# Altium footprint library PX4FMUv2.4.6.PcbLib: 48 footprints (part 1 of 3)
Each footprint in its own frame and in the unit in brackets; x right, y up, seen from the top. Pads: shape width x height; smd on the part's side, far side on the other; paste and mask are expansions set on the pad; w line width, h text height; cw(c..) or ccw(c..) is an arc to the next point about the centre after c.
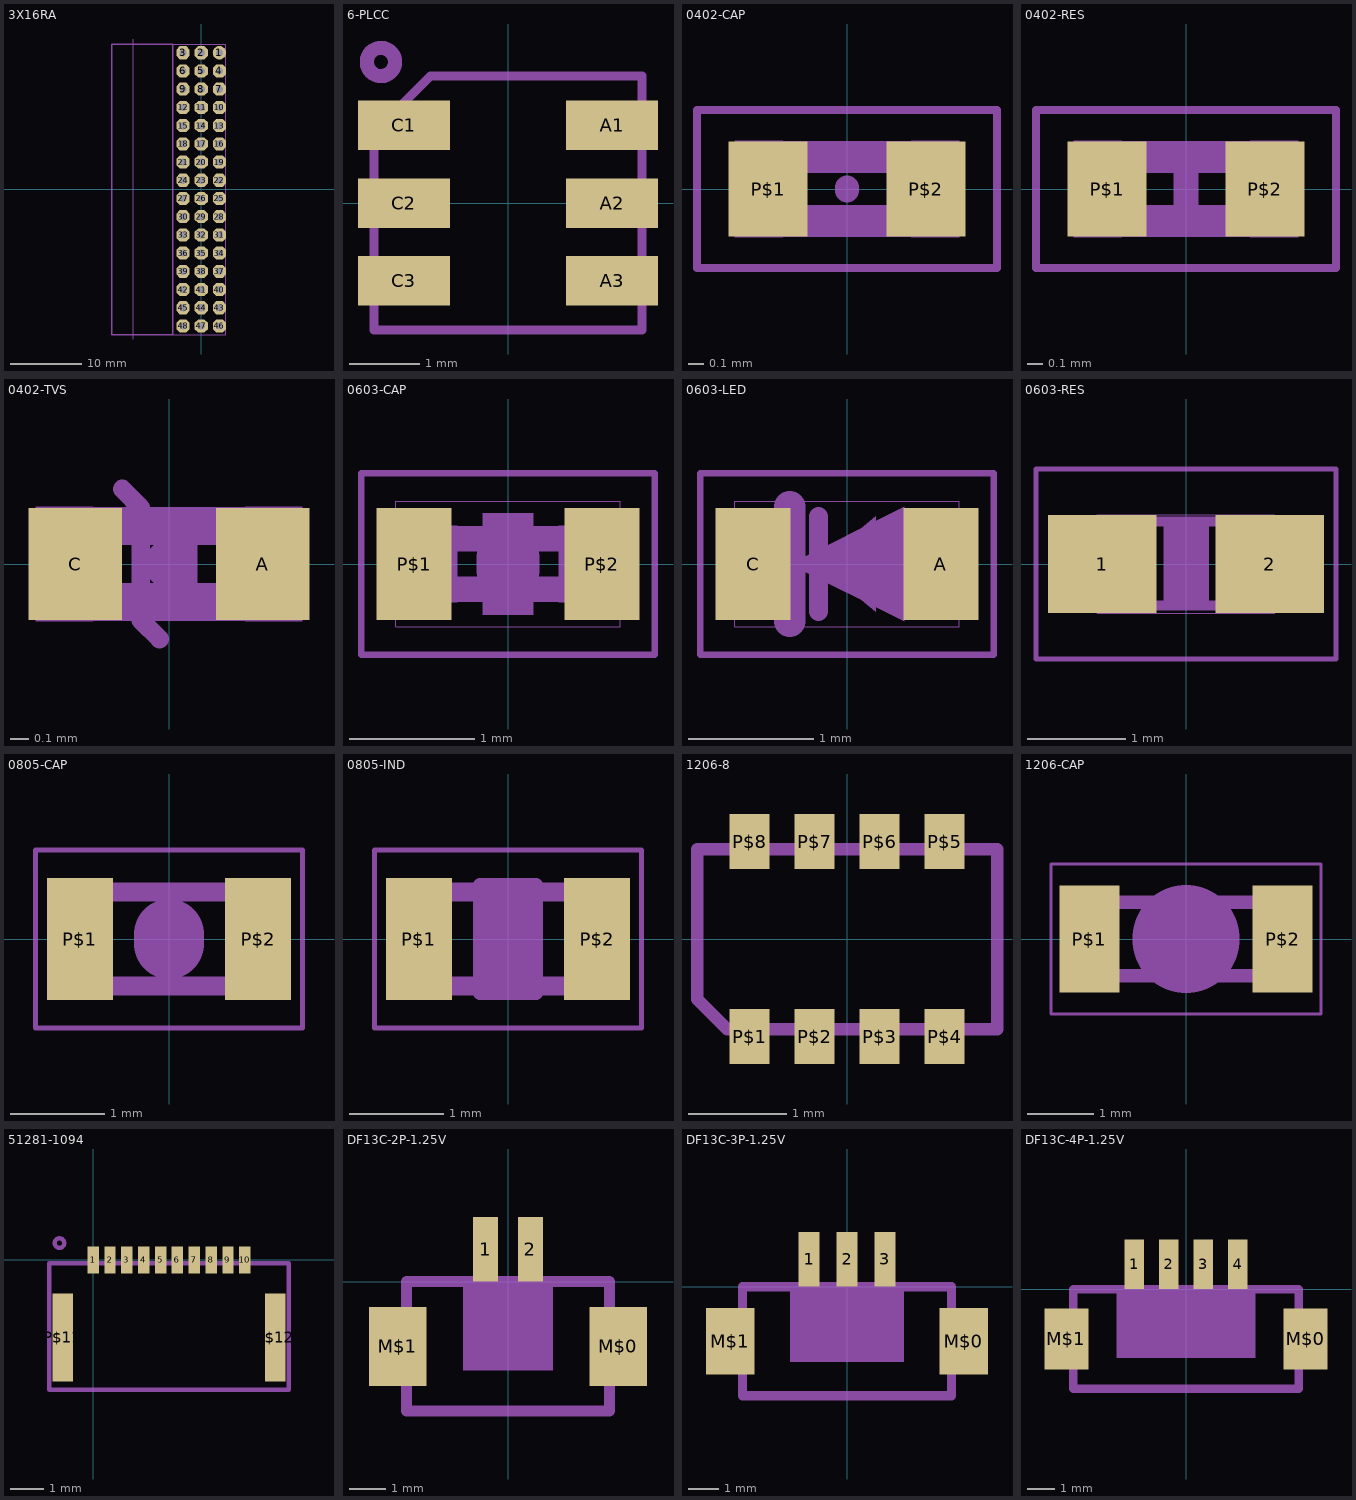
[diagram p0: the footprints below, top view; thin cyan lines are the x and y axes]

## 3X16RA [mil] "3X16RA"
pads (48):
  round 74 / inner round 60 / far side round 74 hole 40: 1(100,750)
  oct 71.65x71.65 / inner oct 60x60 / far side oct 71.65x71.65 hole 40: 2(0,750) 3(-100,750) 4(100,650) 5(0,650) 6(-100,650) 7(100,550) 8(0,550) 9(-100,550) 10(100,450) 11(0,450) 12(-100,450) 13(100,350) 14(0,350) 15(-100,350) 16(100,250) 17(0,250) 18(-100,250) 19(100,150) 20(0,150) 21(-100,150) 22(100,50) 23(0,50) 24(-100,50) 25(100,-50) 26(0,-50) 27(-100,-50) 28(100,-150) 29(0,-150) 30(-100,-150) 31(100,-250) 32(0,-250) 33(-100,-250) 34(100,-350) 35(0,-350) 36(-100,-350) 37(100,-450) 38(0,-450) 39(-100,-450) 40(100,-550) 41(0,-550) 42(-100,-550) 43(100,-650) 44(0,-650) 45(-100,-650) 46(100,-750) 47(0,-750) 48(-100,-750)
Mechanical 8:
  drawing of 56 lines, arcs and shapes, not listed
Mechanical 16:
  lines w0.38: -490.94,-797.64 135.04,-797.64 135.04,-2.36 135.04,797.64 -490.94,797.64 -490.94,-2.36 -490.94,-797.64

## 6-PLCC [mm] "6-PLCC"
pads (6):
  rect 1.3x0.7 smd: A1(1.475,1.1) A2(1.475,0) A3(1.475,-1.1) C1(-1.475,1.1) C2(-1.475,0) C3(-1.475,-1.1)
Mechanical 9:
  lines w0.127: -1.9,-1.8 -1.9,1 -1.1,1.8 ; 1.9,-1.8 1.9,1.8
Mechanical 16:
  circle w0.2: c-1.8,2 r0.2
  lines w0.127: -1.9,-1.8 1.9,-1.8 ; -1.1,1.8 1.9,1.8

## 0402-CAP [mm] "0402-CAP"
pads (2):
  rect 0.5x0.6 smd: P$1(-0.5,0) P$2(0.5,0)
Mechanical 8:
  region: 0.406,-0.305 0.406,0.305 0.711,0.305 0.711,-0.305
  region: -0.711,-0.305 -0.711,0.305 -0.406,0.305 -0.406,-0.305
  lines w0.203: -0.508,-0.203 0.508,-0.203 ; -0.508,0.203 0.508,0.203
Mechanical 16:
  lines w0.001: -0.6,-0.3 -0.6,0.3 0.6,0.3 0.6,-0.3 -0.6,-0.3
  lines w0.051: -0.95,-0.5 -0.95,0.5 0.95,0.5 0.95,-0.5 -0.95,-0.5
  lines w0.152: 0,-0.01 0,0.01

## 0402-RES [mm] "0402-RES"
pads (2):
  rect 0.5x0.6 smd: P$1(-0.5,0) P$2(0.5,0)
Mechanical 8:
  region: 0.406,-0.305 0.406,0.305 0.711,0.305 0.711,-0.305
  region: -0.711,-0.305 -0.711,0.305 -0.406,0.305 -0.406,-0.305
  lines w0.203: -0.508,-0.203 0.508,-0.203 ; -0.508,0.203 0.508,0.203
Mechanical 16:
  region: -0.076,-0.3 -0.076,0.3 0.076,0.3 0.076,-0.3
  lines w0.001: -0.6,-0.3 -0.6,0.3 0.6,0.3 0.6,-0.3 -0.6,-0.3
  lines w0.051: -0.95,-0.5 -0.95,0.5 0.95,0.5 0.95,-0.5 -0.95,-0.5

## 0402-TVS [mm] "0402-TVS"
pads (2):
  rect 0.5x0.6 smd: A(0.5,0) C(-0.5,0)
Mechanical 8:
  region: -0.711,-0.305 -0.711,0.305 -0.406,0.305 -0.406,-0.305
  region: 0.406,-0.305 0.406,0.305 0.711,0.305 0.711,-0.305
  lines w0.203: -0.508,-0.203 0.508,-0.203 ; -0.508,0.203 0.508,0.203
Mechanical 16:
  lines w0.1: -0.25,0.4 -0.15,0.3 -0.15,-0.3 -0.05,-0.4
  lines w0.152: -0.076,0 0.076,0.152 0.076,0 ; -0.076,0 0.076,-0.152 0.076,0 ; -0.076,0 0.076,0

## 0603-CAP [mm] "0603-CAP"
pads (2):
  rect 0.6x0.9 smd: P$1(-0.75,0) P$2(0.75,0)
Mechanical 8:
  region: -0.711,-0.305 -0.711,0.305 -0.406,0.305 -0.406,-0.305
  region: 0.406,-0.305 0.406,0.305 0.711,0.305 0.711,-0.305
  region: 0.406,-0.305 0.406,0.305 0.711,0.305 0.711,-0.305
  lines w0.203: -0.508,-0.203 0.508,-0.203 ; -0.508,0.203 0.508,0.203
Mechanical 16:
  region: -0.2,-0.3 -0.2,0.3 0.2,0.3 0.2,-0.3
  region: -0.203,-0.406 -0.203,0.406 0.203,0.406 0.203,-0.406
  lines w0.001: -0.9,-0.5 0.9,-0.5 0.9,0.5 -0.9,0.5 -0.9,-0.5
  lines w0.051: -1.175,-0.725 1.175,-0.725 1.175,0.725 -1.175,0.725 -1.175,-0.725
  lines w0.5: 0,-0.051 0,0.051

## 0603-LED [mm] "0603-LED"
pads (2):
  rect 0.6x0.9 smd: A(0.75,0) C(-0.75,0)
Mechanical 9:
  region: -0.457,0 0.457,0.457 0.457,-0.457
  lines w0.254: -0.457,-0.457 -0.457,0.457
Mechanical 16:
  region: -0.229,0 0.229,0.381 0.229,-0.381
  lines w0.001: -0.9,-0.5 -0.9,0.5 0.9,0.5 0.9,-0.5 -0.9,-0.5
  lines w0.051: -1.175,-0.725 -1.175,0.725 1.175,0.725 1.175,-0.725 -1.175,-0.725
  lines w0.152: -0.229,-0.381 -0.229,0.381

## 0603-RES [mm] "0603-RES"
pads (2):
  rect 1.1x1 smd: 1(-0.85,0) 2(0.85,0)
Mechanical 8:
  region: -0.838,-0.47 -0.838,0.48 -0.338,0.48 -0.338,-0.47
  region: 0.33,-0.47 0.33,0.48 0.83,0.48 0.83,-0.47
  lines w0.102: -0.356,-0.419 0.356,-0.419 ; -0.356,0.432 0.356,0.432
Mechanical 16:
  region: -0.2,-0.3 -0.2,0.3 0.2,0.3 0.2,-0.3
  region: -0.229,-0.381 -0.229,0.381 0.229,0.381 0.229,-0.381
  lines w0.001: -0.9,-0.5 0.9,-0.5 0.9,0.5 -0.9,0.5 -0.9,-0.5
  lines w0.051: -1.524,-0.965 1.524,-0.965 1.524,0.965 -1.524,0.965 -1.524,-0.965

## 0805-CAP [mm] "0805-CAP"
pads (2):
  rect 0.7x1.3 smd: P$1(-0.95,0) P$2(0.95,0)
Mechanical 8:
  region: -1,-0.601 -1,0.601 -0.6,0.601 -0.6,-0.601
  region: 0.6,-0.601 0.6,0.601 1,0.601 1,-0.601
  lines w0.203: -0.6,-0.5 0.6,-0.5 ; -0.6,0.5 0.6,0.5
Mechanical 16:
  lines w0.051: -1.425,-0.95 1.425,-0.95 1.425,0.95 -1.425,0.95 -1.425,-0.95
  lines w0.75: 0,-0.051 0,0.051

## 0805-IND [mm] "0805-IND"
pads (2):
  rect 0.7x1.3 smd: P$1(-0.95,0) P$2(0.95,0)
Mechanical 8:
  region: 0.6,-0.601 0.6,0.601 1,0.601 1,-0.601
  region: -1,-0.601 -1,0.601 -0.6,0.601 -0.6,-0.601
  lines w0.203: -0.6,-0.5 0.6,-0.5 ; -0.6,0.5 0.6,0.5
Mechanical 16:
  region: -0.299,-0.574 -0.299,0.574 0.299,0.574 0.299,-0.574
  lines w0.051: -1.425,-0.95 -1.425,0.95 1.425,0.95 1.425,-0.95 -1.425,-0.95
  lines w0.152: -0.299,-0.574 0.299,-0.574 0.299,0.574 -0.299,0.574 -0.299,-0.574

## 1206-8 [mil] "1206-8"
pads (8):
  rect 16x22 smd: P$1(-39,-39) P$2(-13,-39) P$3(13,-39) P$4(39,-39) P$5(39,39) P$6(13,39) P$7(-13,39) P$8(-39,39)
Mechanical 16:
  lines w5: -60,-24 -48,-36 60,-36 60,36 -60,36 -60,-24

## 1206-CAP [mm] "1206-CAP"
pads (2):
  rect 0.9x1.6 smd: P$1(-1.45,0) P$2(1.45,0)
Mechanical 8:
  region: -1.75,-0.65 -1.75,0.65 -1.15,0.65 -1.15,-0.65
  region: 1.15,-0.65 1.15,0.65 1.75,0.65 1.75,-0.65
  lines w0.203: -1.15,-0.548 1.15,-0.548 ; -1.15,0.548 1.15,0.548
Mechanical 16:
  lines w0.051: -2.025,-1.125 2.025,-1.125 2.025,1.125 -2.025,1.125 -2.025,-1.125
  lines w1.6: 0,-0.01 0,0.01

## 51281-1094 [mil] "51281-1094"
pads (12):
  rect 13.39x31.5 smd: 1(0,0) 2(19.69,0) 3(39.37,0) 4(59.06,0) 5(78.74,0) 6(98.43,0) 7(118.11,0) 8(137.8,0) 9(157.48,0) 10(177.17,0)
  rect 23.62x102.36 smd: P$11(-35.43,-90.55) P$12(212.6,-90.55)
Mechanical 16:
  circle w5: c-39.37,19.69 r5.57
  lines w5: -51.18,-151.57 228.35,-151.57 ; -51.18,-149.61 -51.18,-3.94 228.35,-3.94 228.35,-149.61

## DF13C-2P-1.25V [mm] "DF13C-2P-1.25V"
pads (4):
  rect 0.7x1.8 smd: 1(-0.625,0.9) 2(0.625,0.9)
  rect 1.6x2.2 smd: M$0(3.075,-1.8) M$1(-3.075,-1.8)
Mechanical 16:
  region: -1.25,-2.47 -1.25,-0.1 1.25,-0.1 1.25,-2.47
  lines w0.305: -2.825,-3.6 -2.825,0 2.825,0 2.825,-3.6 -2.825,-3.6

## DF13C-3P-1.25V [mm] "DF13C-3P-1.25V"
pads (5):
  rect 0.7x1.8 smd: 1(-1.25,0.9) 2(0,0.9) 3(1.25,0.9)
  rect 1.6x2.2 smd: M$0(3.85,-1.8) M$1(-3.85,-1.8)
Mechanical 16:
  region: -1.875,-2.47 -1.875,-0.1 1.875,-0.1 1.875,-2.47
  lines w0.305: -3.45,-3.6 -3.45,0 3.45,0 3.45,-3.6 -3.45,-3.6

## DF13C-4P-1.25V [mm] "DF13C-4P-1.25V"
pads (6):
  rect 0.7x1.8 smd: 1(-1.875,0.9) 2(-0.625,0.9) 3(0.625,0.9) 4(1.875,0.9)
  rect 1.6x2.2 smd: M$0(4.325,-1.8) M$1(-4.325,-1.8)
Mechanical 16:
  region: -2.5,-2.475 -2.5,-0.1 2.5,-0.1 2.5,-2.475
  lines w0.305: -4.075,-3.6 -4.075,0 4.075,0 4.075,-3.6 -4.075,-3.6